# Altium schematic symbol library ERJ-1GEF5232C.SchLib: 1 symbol
Pins are listed as number, name and electrical type; pins without a type are passive.

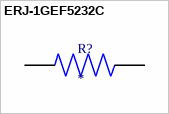
[diagram p0: symbol ERJ-1GEF5232C]

## ERJ-1GEF5232C
designator R?
Res Thick Film 0201 52.3K Ohm 1% 0.05W(1/20W) Â±200ppm/C SMD T/R; MP: ERJ-1GEF5232C; MF: {'manufacturer': u'Panasonic'}; Package: None; Value: *; Availability: Unavailable; Price: None
footprint RESC0603X26N
pins: 1, 2